# EAGLE library part 5787395-5 (library 5787395-5)
TE Connectivity Amplimite .050 III Series 50 Way Right Angle Panel Mount PCB D-sub Connector, Socket Source: Datasheet <https://www.te.com/commerce/DocumentDelivery/DDEController?Action=showdoc&DocId=Customer Drawing5787395BpdfEnglishENG_CD_5787395_B.pdf5787395-5>
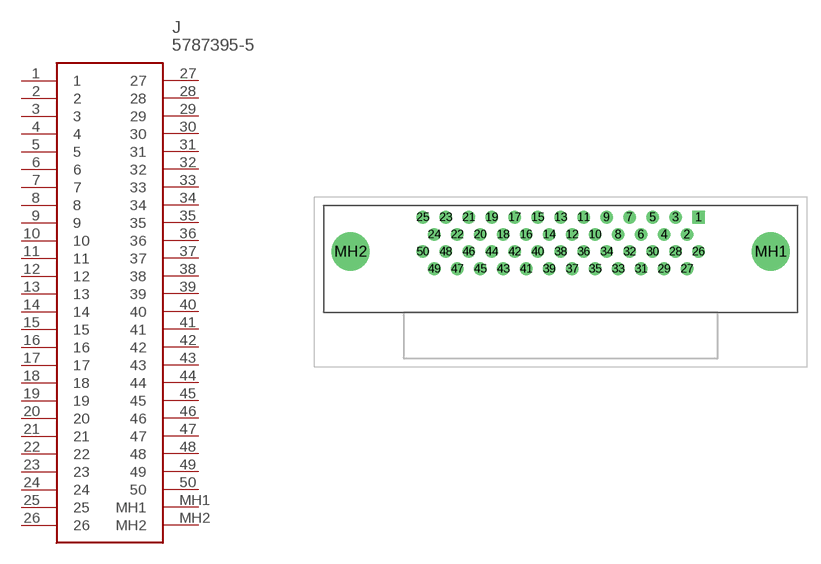
[diagram p0: symbol with the pads of 57873955; footprint 57873955]

Designator prefix J

## 5787395-5 (Arrow_Part_Number: 5787395-5; Arrow_Price-Stock: https://www.arrow.com/en/products/5787395-5/te-connectivity; Description: TE Connectivity Amplimite .050 III Series 50 Way Right Angle Panel Mount PCB D-sub Connector, Socket; Height: 10.31mm; Manufacturer_Name: TE Connectivity; Manufacturer_Part_Number: 5787395-5; Mouser_Part_Number: 571-5787395-5; Mouser_Price-Stock: https://www.mouser.co.uk/ProductDetail/TE-Connectivity-AMP/5787395-5?qs=Lu3apKW7jUjLun%252BUYfl%252BvA%3D%3D)  [57873955]
1  1
2  2
3  3
4  4
5  5
6  6
7  7
8  8
9  9
10  10
11  11
12  12
13  13
14  14
15  15
16  16
17  17
18  18
19  19
20  20
21  21
22  22
23  23
24  24
25  25
26  26
27  27
28  28
29  29
30  30
31  31
32  32
33  33
34  34
35  35
36  36
37  37
38  38
39  39
40  40
41  41
42  42
43  43
44  44
45  45
46  46
47  47
48  48
49  49
50  50
MH1  MH1
MH2  MH2

## Footprint 57873955 (pad centres in mm)
5787395-5-2
drill 0.86 pad 1.397 square: 1 0,0
drill 0.86 pad 1.397: 2 -1.27,-1.9; 3 -2.54,0; 4 -3.81,-1.9; 5 -5.08,0; 6 -6.35,-1.9; 7 -7.62,0; 8 -8.89,-1.9; 9 -10.16,0; 10 -11.43,-1.9; 11 -12.7,0; 12 -13.97,-1.9; 13 -15.24,0; 14 -16.51,-1.9; 15 -17.78,0; 16 -19.05,-1.9; 17 -20.32,0; 18 -21.59,-1.9; 19 -22.86,0; 20 -24.13,-1.9; 21 -25.4,0; 22 -26.67,-1.9; 23 -27.94,0; 24 -29.21,-1.9; 25 -30.48,0; 26 0,-3.8; 27 -1.27,-5.7; 28 -2.54,-3.8; 29 -3.81,-5.7; 30 -5.08,-3.8; 31 -6.35,-5.7; 32 -7.62,-3.8; 33 -8.89,-5.7; 34 -10.16,-3.8; 35 -11.43,-5.7; 36 -12.7,-3.8; 37 -13.97,-5.7; 38 -15.24,-3.8; 39 -16.51,-5.7; 40 -17.78,-3.8; 41 -19.05,-5.7; 42 -20.32,-3.8; 43 -21.59,-5.7; 44 -22.86,-3.8; 45 -24.13,-5.7; 46 -25.4,-3.8; 47 -26.67,-5.7; 48 -27.94,-3.8; 49 -29.21,-5.7; 50 -30.48,-3.8
drill 2.82 pad 4.23: MH1 8,-3.8; MH2 -38.48,-3.8